# EAGLE library part BUK7K6R8 (library controller)
Dual N-channel TrenchMOS standard level FET NXP Semiconductor. 40V 40A LFPAK56D (SOT 1205)
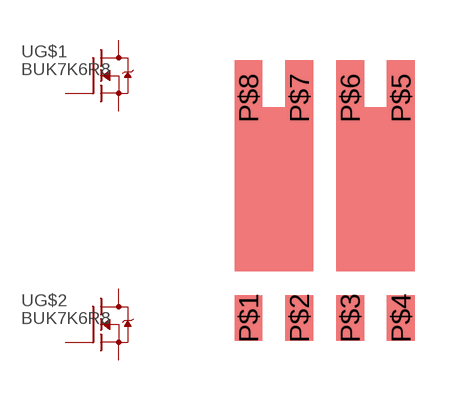
[diagram p0: symbol with the pads of LFPAK56D; footprint LFPAK56D]

Designator prefix -; gates G$1=N-MOSFET-GDS-D G$2=N-MOSFET-GDS-D

## BUK7K6R8  [LFPAK56D]
P$1  G$1:S  pas
P$2  G$1:G  pas
P$3  G$2:S  pas
P$4  G$2:G  pas
P$5  G$2:D  pas
P$6  G$2:D  pas
P$7  G$1:D  pas
P$8  G$1:D  pas

## Footprint LFPAK56D (pad centres in mm)
LFPAK56D aka SOT1205
smd 0.7 x 1.15: P$1 -1.905,-3.275; P$2 -0.635,-3.275; P$3 0.635,-3.275; P$4 1.905,-3.275
smd 0.7 x 1.9: P$5 1.905,2.225; P$6 0.635,2.225; P$7 -0.635,2.225; P$8 -1.905,2.225